# EAGLE library part PH_1X09 (library PP_Connectors)
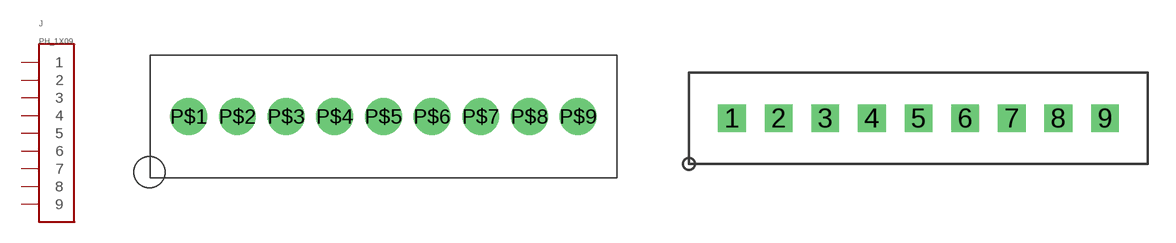
[diagram p7: symbol with the pads of MOLEX_KK_9; footprints MOLEX_KK_9, HEADER_01X09_PTH]

Designator prefix J

## PH_1X09MOLEX_KK_9  [MOLEX_KK_9]
P$1  1
P$2  2
P$3  3
P$4  4
P$5  5
P$6  6
P$7  7
P$8  8
P$9  9

## PH_1X09PTH  [HEADER_01X09_PTH]
1  1
2  2
3  3
4  4
5  5
6  6
7  7
8  8
9  9

## Footprint MOLEX_KK_9 (pad centres in mm)
drill 2: P$1 -15.85,0; P$2 -11.887,0; P$3 -7.925,0; P$4 -3.962,0; P$5 0,0; P$6 3.962,0; P$7 7.925,0; P$8 11.887,0; P$9 15.85,0

## Footprint HEADER_01X09_PTH (pad centres in mm)
drill 1 square: 1 -10.16,0; 2 -7.62,0; 3 -5.08,0; 4 -2.54,0; 5 0,0; 6 2.54,0; 7 5.08,0; 8 7.62,0; 9 10.16,0